# EAGLE library part 52271-11* (library RoboJackets-Connectors)
Molex FPC Connector Brand: Molex <http://www.molex.com> Series: 52271 <http://www.digikey.com/product-search/en?FV=ffec15f7> Distributor: Digi-Key <http://www.digikey.com/product-detail/en/0522711179/WM3379CT-ND/2405748>
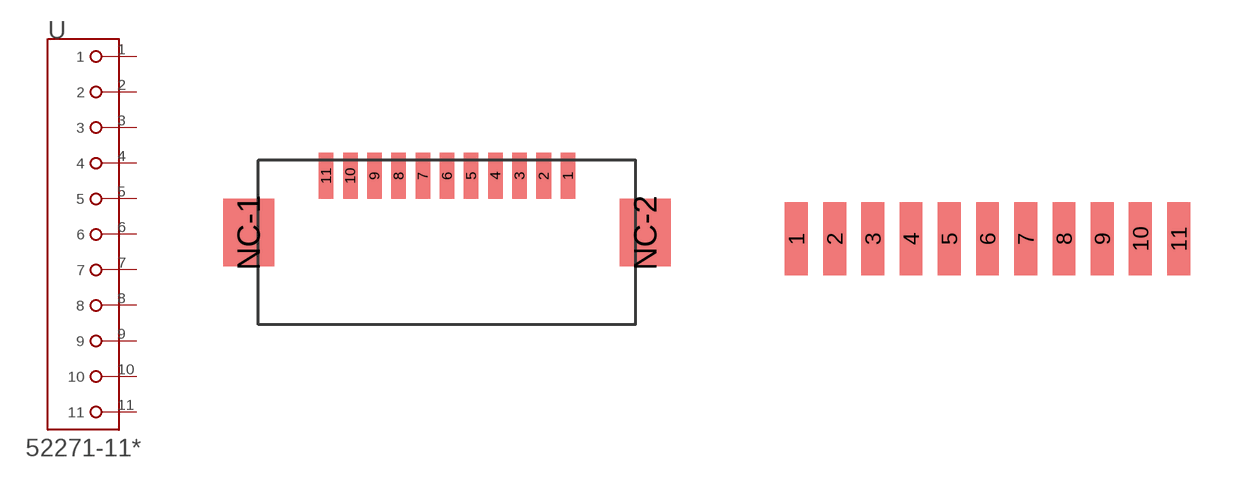
[diagram p5: symbol with the pads of 52271-11; footprints 52271-11, 52271-11(PADS)]

Designator prefix -

## 52271-11 (PINS: 11; PIN_PITCH: 1.0 mm)  [52271-11]
1  1  pas
2  2  pas
3  3  pas
4  4  pas
5  5  pas
6  6  pas
7  7  pas
8  8  pas
9  9  pas
10  10  pas
11  11  pas

## 52271-11-PAD (PINS: 11; PIN_PITCH: 1.0 mm)  [52271-11(PADS)]
Pads as for 52271-11

## Footprint 52271-11 (pad centres in mm)
smd 0.6 x 1.9: 1 5,2.35; 2 4,2.35; 3 3,2.35; 4 2,2.35; 5 1,2.35; 6 0,2.35; 7 -1,2.35; 8 -2,2.35; 9 -3,2.35; 10 -4,2.35; 11 -5,2.35
smd 2.1 x 2.8: NC-1 -8.2,0; NC-2 8.2,0

## Footprint 52271-11(PADS) (pad centres in mm)
smd 0.6 x 1.9: 1 -5,-0.12; 2 -4,-0.12; 3 -3,-0.12; 4 -2,-0.12; 5 -1,-0.12; 6 0,-0.12; 7 1,-0.12; 8 2,-0.12; 9 3,-0.12; 10 4,-0.12; 11 5,-0.12